# Altium footprint library PVG612S.PcbLib: 1 footprints
Each footprint in its own frame and in the unit in brackets; x right, y up, seen from the top. Pads: shape width x height; smd on the part's side, far side on the other; paste and mask are expansions set on the pad; w line width, h text height; cw(c..) or ccw(c..) is an arc to the next point about the centre after c.
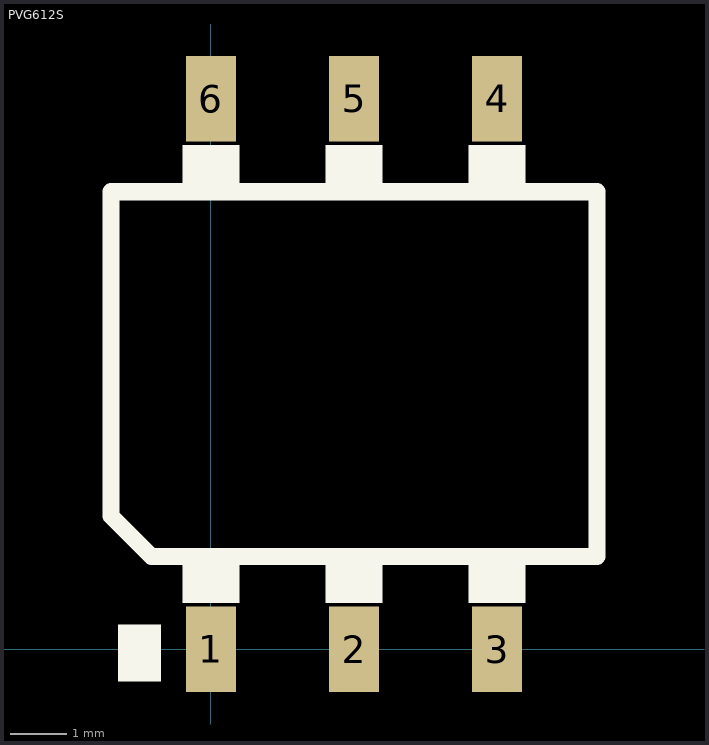
[diagram p0: the footprint, top view; thin cyan lines are the x and y axes]

## PVG612S [mil]
pads (6):
  rect 35x60 smd: 1(0,0) 2(100,0) 3(200,0) 4(200,385) 5(100,385) 6(0,385)
Top Overlay:
  region: -35,-22.5 -35,17.5 -65,17.5 -65,-22.5
  region: 20,62.5 -20,62.5 -20,32.5 20,32.5
  region: 120,62.5 80,62.5 80,32.5 120,32.5
  region: 220,62.5 180,62.5 180,32.5 220,32.5
  region: 20,352.5 -20,352.5 -20,322.5 20,322.5
  region: 120,352.5 80,352.5 80,322.5 120,322.5
  region: 220,352.5 180,352.5 180,322.5 220,322.5
  lines w12: -70,320 270,320 270,65 -41.63,64.94 -69.95,93.25 -70,320
3D body: height 175.6, standoff 0.6, extent -70,-2.5 270,392.5